# EAGLE library part NEO-6M-0-001 (library ul_NEO-6M-0-001)
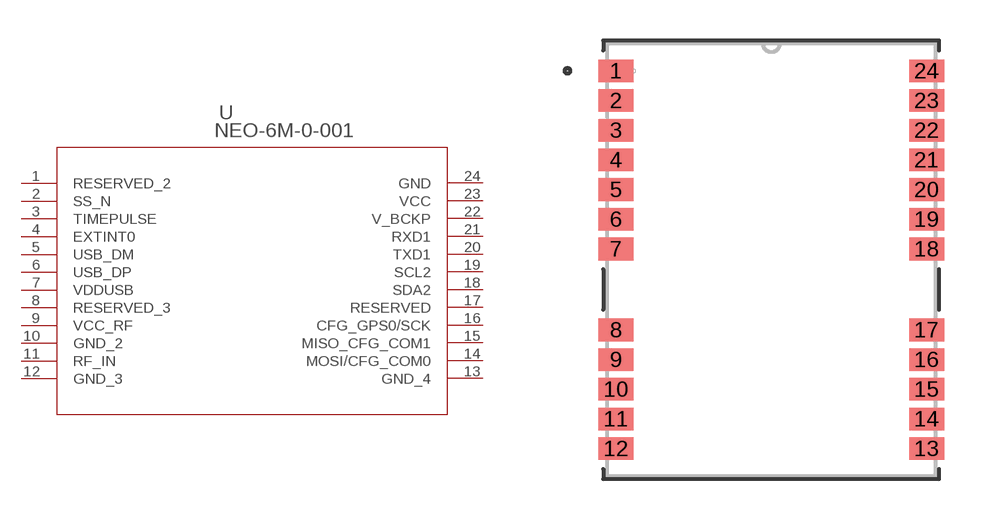
[diagram p0: symbol with the pads of NEO-6M-0-001_UBL; footprint NEO-6M-0-001_UBL]

Designator prefix U

## NEO-6M-0-001NEO-6M-0-001_UBL (Copyright: Copyright (C) 2024 Ultra Librarian. All rights reserved.; Manufacturer_Part_Number: NEO-6M-0-001; Mfr_Name: Ublox)  [NEO-6M-0-001_UBL]
1  RESERVED_2  nc
2  SS_N  in
3  TIMEPULSE  out
4  EXTINT0  in
5  USB_DM
6  USB_DP
7  VDDUSB  pwr
8  RESERVED_3  nc
9  VCC_RF  pwr
10  GND_2  pas
11  RF_IN  in
12  GND_3  pas
13  GND_4  pas
14  MOSI/CFG_COM0
15  MISO_CFG_COM1  in
16  CFG_GPS0/SCK  in
17  RESERVED  nc
18  SDA2
19  SCL2
20  TXD1  out
21  RXD1  in
22  V_BCKP  pwr
23  VCC  pwr
24  GND  pas

## Footprint NEO-6M-0-001_UBL (pad centres in mm)
smd 1.295 x 0.838: 1 -5.753,7; 2 -5.753,5.9; 3 -5.753,4.8; 4 -5.753,3.7; 5 -5.753,2.6; 6 -5.753,1.5; 7 -5.753,0.4; 8 -5.753,-2.6; 9 -5.753,-3.7; 10 -5.753,-4.8; 11 -5.753,-5.9; 12 -5.753,-7; 13 5.753,-7; 14 5.753,-5.9; 15 5.753,-4.8; 16 5.753,-3.7; 17 5.753,-2.6; 18 5.753,0.4; 19 5.753,1.5; 20 5.753,2.6; 21 5.753,3.7; 22 5.753,4.8; 23 5.753,5.9; 24 5.753,7